# Altium footprint library PCB_ROBOT_HUT_BUI.PcbLib: 27 footprints (part 1 of 2)
Each footprint in its own frame and in the unit in brackets; x right, y up, seen from the top. Pads: shape width x height; smd on the part's side, far side on the other; paste and mask are expansions set on the pad; w line width, h text height; cw(c..) or ccw(c..) is an arc to the next point about the centre after c.
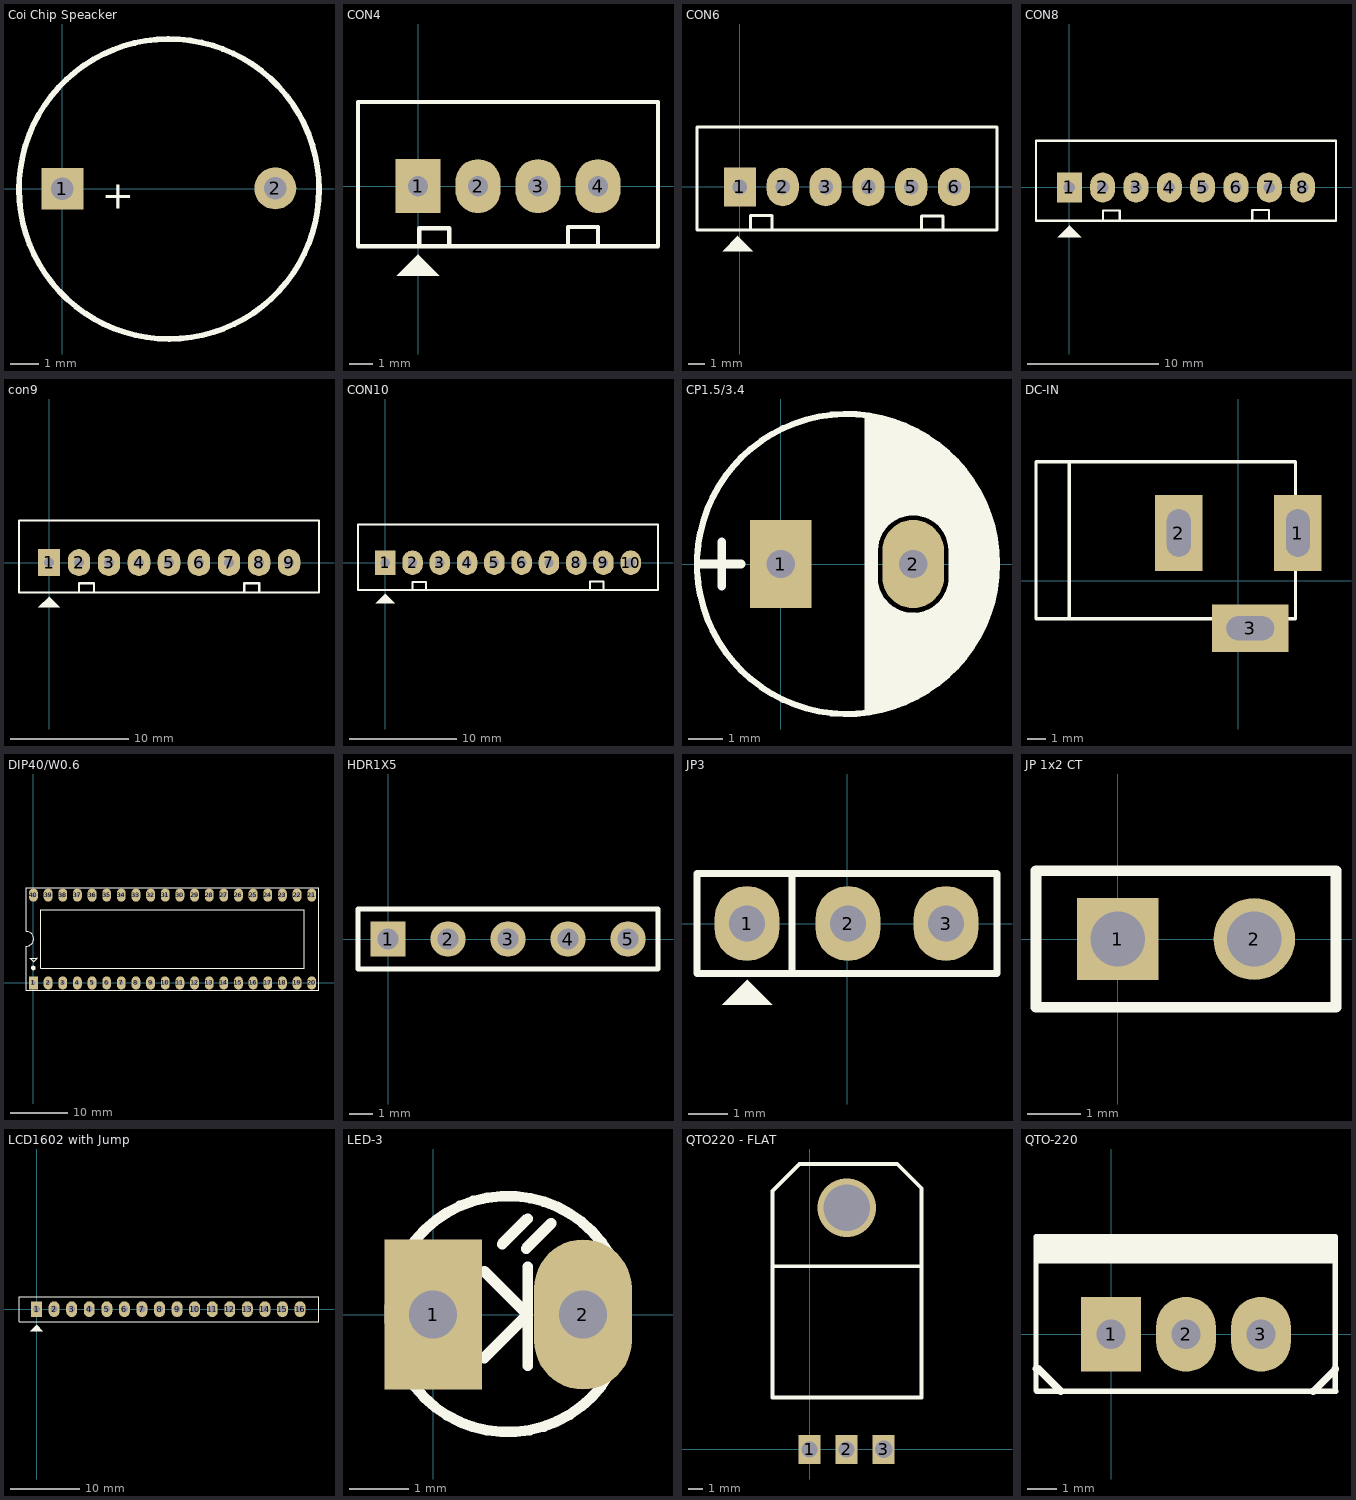
[diagram p0: the footprints below, top view; thin cyan lines are the x and y axes]

## Coi Chip Speacker [mm]
pads (2):
  rect 1.5x1.5 hole 0.8: 1(0,0)
  round 1.5 hole 0.8: 2(7.62,0.013)
Top Overlay:
  lines w0.203: 7.724,3.67 ccw(c3.816,-0.008) 7.76,3.632
  text "+" at 1.41,-0.711 h1.02
3D body "User Library-Buzzer WST-1203UX.step": height 4.5, standoff -9.65, extent -2.215,-6 13.239,6

## CON4 [mil]
pads (4):
  rect 75x90 hole 34: 1(0,0)
  oval 75x90 hole 34: 2(100,0) 3(200,0) 4(300,0)
Top Overlay:
  region: -35.5,-149.5 35.5,-149.5 0.5,-114.5 0.5,-113.5
  lines w7: 2,-100 2,-70 52,-70 52,-100 ; 250,-98 250,-68 300,-68 300,-98 ; -100,-100 400,-100 400,0 400,140 -100,140 -100,-100
3D body "User Library-HEADER,JST,BxB-XH-A.STEP": height 275.59, standoff -133.86, extent -90,-90 398.19,136.38

## CON6 [mil]
pads (6):
  rect 75x90 hole 34: 1(0,0)
  oval 75x90 hole 34: 2(100,0) 3(200,0) 4(300,0) 5(400,0) 6(500,0)
Top Overlay:
  region: -40.5,-149.5 30.5,-149.5 -4.5,-114.5 -4.5,-113.5
  lines w7: 25,-97 25,-67 75,-67 75,-97 ; 424,-98 424,-68 474,-68 474,-98 ; -100,-100 600,-100 600,0 600,140 -100,140 -100,-100
3D body "User Library-B6B-XH-A.STEP": height 276.19, standoff -133.26, extent -93.02,-91 592.02,135.38

## CON8 [mil]
pads (8):
  rect 75x90 hole 34: 1(0,0)
  oval 75x90 hole 34: 2(100,0) 3(200,0) 4(300,0) 5(400,0) 6(500,0) 7(600,0) 8(700,0)
Top Overlay:
  region: -35.5,-149.5 35.5,-149.5 0.5,-114.5 0.5,-113.5
  lines w7: 101,-99 101,-69 151,-69 151,-99 ; 549,-98 549,-68 599,-68 599,-98 ; -100,-100 -100,140 800,140 800,0 800,-100 -100,-100
3D body "User Library-B8B-XH-A.STEP": height 244.69, standoff -164.76, extent -91.94,-94.5 789.94,131.88

## con9 [mil]
pads (9):
  rect 75x90 hole 34: 1(0,0)
  oval 75x90 hole 34: 2(100,0) 3(200,0) 4(300,0) 5(400,0) 6(500,0) 7(600,0) 8(700,0) 9(800,0)
Top Overlay:
  region: -35.5,-149.5 35.5,-149.5 0.5,-114.5 0.5,-113.5
  lines w7: 100,-99 100,-69 150,-69 150,-99 ; 651,-99 651,-69 701,-69 701,-99 ; -100,-100 900,-100 900,0 900,140 -100,140 -100,-100

## CON10 [mil]
pads (10):
  rect 75x90 hole 34: 1(0,0)
  oval 75x90 hole 34: 2(100,0) 3(200,0) 4(300,0) 5(400,0) 6(500,0) 7(600,0) 8(700,0) 9(800,0) 10(900,0)
Top Overlay:
  region: -35.5,-149.5 35.5,-149.5 0.5,-114.5 0.5,-113.5
  lines w7: 100,-100 100,-70 150,-70 150,-100 ; 750,-99 750,-69 800,-69 800,-99 ; -100,-100 1000,-100 1000,0 1000,140 -100,140 -100,-100

## CP1.5/3.4 [mil]
pads (2):
  rect 70x100 hole 32: 1(0,0)
  oval 70x100 hole 32: 2(150,0)
Top Overlay:
  circle w7: c75,0 r170
  region: 100,25 135,60 162.93,60.33 169.59,59.01 175.24,55.24 175,55 181.63,48.7 184.3,44.71 185.24,40 185,40 190.24,35.24 194.01,29.59 195.33,22.93 195,22.93 195.33,-27.93 194.01,-34.59 190.24,-40.24 190,-40 178.7,-51.63 174.71,-54.3 170,-55.24 170.24,-55.24 164.59,-59.01 157.93,-60.33 157.93,-60 144.14,-60.29 135.23,-59.12 126.92,-55.68 119.79,-50.21 120,-50 108.37,-38.7 105.7,-34.71 104.76,-30 105,-30 100,-30 100,-170 155,-150 195,-120 225,-80 245,-20 245,20 230,70 200,115 165,145 120,165 100,170
  lines w10: -90,0 -45,0 ; -67,-25 -67,25 ; 100,-165 100,165 ; 100,25 105,25 ; 105,-20 105,30 ; 105,-10 ccw(c150,-15) 145,-60 ccw(c150,-15) 195,-20 195,15 ccw(c150,15) 150,60 ccw(c150,15) 105,15
3D body "User Library-CAP 8X11_5.STEP": height 445.89, standoff -754.41, extent -84.96,-157.48 230,157.48

## DC-IN [mil]
pads (3):
  rect 100x160 hole 50 slot 100 at 90 deg: 1(125,100) 2(-125,100)
  rect 160x100 hole 50 slot 100 at 0 deg: 3(25,-100)
Top Overlay:
  lines w7: -355,-80 -355,250 ; -425,-80 120,-80 120,250 -425,250 -425,-80
3D body "SW3dPS-dc range - dc connector[4840.2201].STEP": height 433.67, standoff -137.2, extent -410.35,-105.12 134,269.12

## DIP40/W0.6 [mil]
pads (40):
  rect 60x90 hole 31: 1(0,0)
  oval 60x90 hole 31: 2(100,0) 3(200,0) 4(300,0) 5(400,0) 6(500,0) 7(600,0) 8(700,0) 9(800,0) 10(900,0) 11(1000,0) 12(1100,0) 13(1200,0) 14(1300,0) 15(1400,0) 16(1500,0) 17(1600,0) 18(1700,0) 19(1800,0) 20(1900,0) 21(1900,600) 22(1800,600) 23(1700,600) 24(1600,600) 25(1500,600) 26(1400,600) 27(1300,600) 28(1200,600) 29(1100,600) 30(1000,600) 31(900,600) 32(800,600) 33(700,600) 34(600,600) 35(500,600) 36(400,600) 37(300,600) 38(200,600) 39(100,600) 40(0,600)
Top Overlay:
  circle w15: c-1,102 r8
  lines w7: -50.38,251.05 ccw(c-48.69,301.02) -50,351 ; -50,251 -50,-50 1950,-50 1950,650 -50,650 -50,352 ; -24,170 -23,170 1,146 1,145 25,169 25,171 24,170 -24,170 ; 50,100 1850,100 1850,500 50,500 50,100
3D body "SW3dPS-DIP40-600.STEP": height 224.41, standoff -101.57, extent -82.48,-10 1982.48,599.84

## HDR1X5 [mm]
pads (5):
  rect 1.5x1.5 hole 0.9: 1(0,0)
  round 1.5 hole 0.9: 2(2.54,0) 3(5.08,0) 4(7.62,0) 5(10.16,0)
Top Overlay:
  lines w0.2: -1.27,-1.27 11.43,-1.27 11.43,1.27 -1.27,1.27 -1.27,-1.27
3D body "female_header_a-bl254-eg-g05d.stp": height 8.52, standoff -3.18, extent -1.382,-1.257 11.568,1.243

## JP3 [mil]
pads (3):
  oval 65x75 hole 36: 1(-100,0) 2(1,0) 3(99,0)
Top Overlay:
  region: -100,-56 -125,-81 -75,-81
  lines w7: -55,-50 -55,49 ; -150,-50 -150,50 150,50 150,-50 -150,-50
3D body "User Library-PinHeaderX3.STEP": height 355.04, standoff -124.88, extent -150,-59.96 150,55

## JP 1x2 CT [mm]
pads (2):
  rect 1.52x1.52 hole 1.02: 1(0,0)
  round 1.52 hole 1.02: 2(2.54,0)
Top Overlay:
  lines w0.2: -1.52,-1.27 -1.52,1.27 4.06,1.27 4.06,-1.27 -1.52,-1.27
3D body "61300211821.stp": height 8.51, standoff -3.09, extent -1.52,-1.25 4.06,1.25

## LCD1602 with Jump [mil]
pads (16):
  rect 62x90 hole 39: 1(0,0)
  oval 62x90 hole 39: 2(100,0) 3(200,0) 4(300,0) 5(400,0) 6(500,0) 7(600,0) 8(700,0) 9(800,0) 10(900,0) 11(1000,0) 12(1100,0) 13(1200,0) 14(1300,0) 15(1400,0) 16(1500,0)
Top Overlay:
  region: 0,-90 -35,-125 35,-125
  lines w7: -100,-71 -100,70 1608,70 1608,-71 -100,-71
3D body "socket16.stp": height 276.19, standoff -117.51, extent -49,-49 1551,51
3D body "jp16.stp": height 468.11, standoff -20.08, extent -48.03,-48.43 1548.03,50
3D body "lcd16.STEP": height 764, standoff 244, extent -319.64,-1353.49 2849.65,83.51

## LED-3 [mil]
pads (2):
  rect 65x100 hole 32: 1(0,0)
  oval 65x100 hole 32: 2(100,0)
Top Overlay:
  lines w7: 34,-29 63,0 34,29 ; 46,47 63,64 ; 62,44 79,61 ; 63,-34 63,32 ; 117.92,-39.35 117.92,39.84
  lines w7.01: 117.57,-39.74 cw(c49.8,0.35) 117.72,40.19
3D body "SW3DPS-LED DIP 3MM-DEFAULT.STEP": height 255.91, standoff -78.74, extent -28.9,-74.61 108.9,75

## QTO220 - FLAT [mm]
pads (3):
  rect 1.5x2 hole 1.1: 1(0,0) 2(2.54,0)
  rect 1.5x2 hole 1.2: 3(5.08,0)
via 2.54,16.562 diameter 4 hole 3.2
Top Overlay:
  lines w0.254: -2.54,5.861 -2.54,17.71 -0.686,19.564 6.007,19.564 7.671,17.901 7.671,3.562 -2.54,3.562 -2.54,12.554 7.671,12.554
3D body "TO220_NAM.step": height 4.45, standoff -1.79, extent -2.54,-0.19 7.62,19.09

## QTO-220 [mil]
pads (3):
  rect 80x100 hole 39: 1(0,0)
  oval 80x100 hole 39: 2(100,0) 3(200,0)
Top Overlay:
  rectangle: -99,94 300,130
  lines w7: 298,107 299,93 ; -100,-75 -100,130 299,130 299,-75 300,-76 -76,-76 -99,-76 -100,-75
  lines w10: -100,-46 -97,-46 -67,-76 ; 270,-76 299,-47 299,-46
3D body "SW3dPS-TO220AB.STEP": height 904.72, standoff -250, extent -119,-64 322.46,120.65